# EAGLE library part N25Q512A13GSF40G (library Micron Technology)
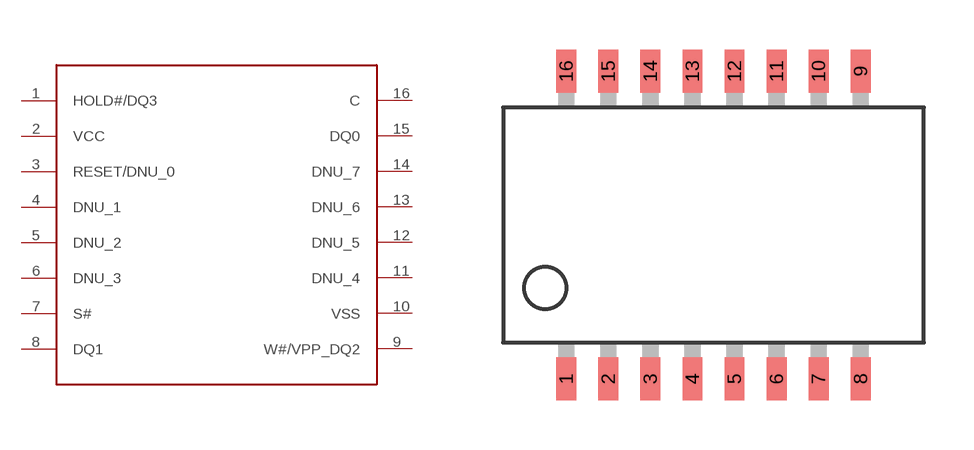
[diagram p0: symbol with the pads of 16-SOIC; footprint 16-SOIC]

Designator prefix -

## N25Q512A13GSF40G  [16-SOIC]
1  HOLD#/DQ3
2  VCC
3  RESET/DNU_0
4  DNU_1
5  DNU_2
6  DNU_3
7  S#
8  DQ1
9  W#/VPP_DQ2
10  VSS
11  DNU_4
12  DNU_5
13  DNU_6
14  DNU_7
15  DQ0
16  C

## Footprint 16-SOIC (pad centres in mm)
smd 0.6 x 1.3: 1 -9.525,1.065; 2 -8.255,1.065; 3 -6.985,1.065; 4 -5.715,1.065; 5 -4.445,1.065; 6 -3.175,1.065; 7 -1.905,1.065; 8 -0.635,1.065; 9 -0.635,10.365; 10 -1.905,10.365; 11 -3.175,10.365; 12 -4.445,10.365; 13 -5.715,10.365; 14 -6.985,10.365; 15 -8.255,10.365; 16 -9.525,10.365